# EAGLE library part LM1876 (library Audio-Power-amlifier V.2.0)
The LM1876 is a stereo audio amplifier capable of delivering typically 20W per channel of continuous average output power into a 4Ω or 8Ω load with less than 0.1% THD+N. Each amplifier has an independent smooth transition fade-in/out mute and a power conserving standby mode which can be controlled by external logic.
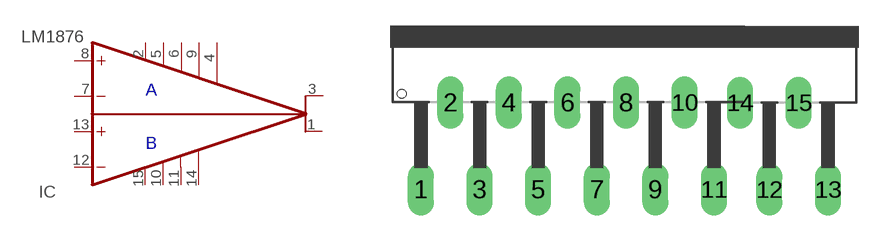
[diagram p85: symbol with the pads of TO220-15; footprint TO220-15]

Designator prefix IC

## LM1876  [TO220-15]
1  OUTB  out
2  VCCA  pwr
3  OUTA  out
4  VEE  pwr
5  GNDA  pwr
6  MUTE_A
7  -INA  in
8  +INA  in
9  STANDBY_A
10  GNDB  pwr
11  MUTE_B
12  -INB  in
13  +INB  in
14  STANDBY_B
15  VCCB  pwr

## Footprint TO220-15 (pad centres in mm)
drill 1.016 long: 1 0.381,1.905; 2 2.083,6.96; 3 3.785,1.905; 4 5.486,6.96; 5 7.188,1.905; 6 8.89,6.96; 7 10.592,1.905; 8 12.294,6.96; 9 13.995,1.905; 10 15.697,6.96; 11 17.399,1.905; 12 20.615,1.895; 13 24.019,1.895; 14 18.914,6.95; 15 22.317,6.95